# EAGLE library part TXS0102 (library texas)
VOLTAGE-LEVEL TRANSLATOR 2-BIT BIDIRECTIONAL
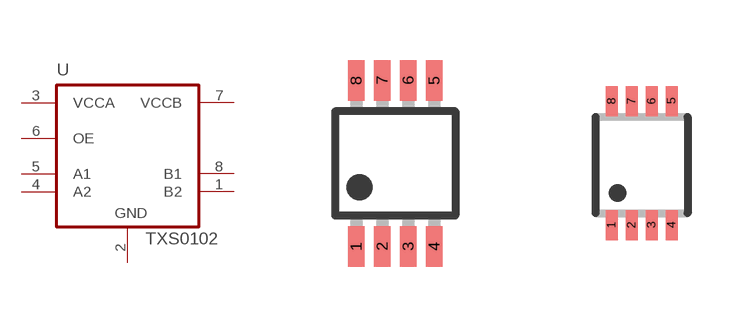
[diagram p38: symbol with the pads of SM8-DCT; footprints SM8-DCT, US8-DCU]

Designator prefix U

## TXS0102DCT  [SM8-DCT]
1  B2
2  GND  pwr
3  VCCA  pwr
4  A2
5  A1
6  OE  in
7  VCCB  pwr
8  B1

## TXS0102DCU  [US8-DCU]
Pads as for SM8-DCT

## TXS0102YZP  [XBGA-N8]
A1  B2
A2  B1
B1  GND  pwr
B2  VCCB  pwr
C1  VCCA  pwr
C2  OE  in
D1  A2
D2  A1

## Footprint SM8-DCT (pad centres in mm)
SM8 - DCT 0.65 mm pitch
smd 0.406 x 1.016: 1 -0.975,-2.075; 2 -0.325,-2.075; 3 0.325,-2.075; 4 0.975,-2.075; 5 0.975,2.075; 6 0.325,2.075; 7 -0.325,2.075; 8 -0.975,2.075

## Footprint US8-DCU (pad centres in mm)
US8 - DCU 0.50 mm pitch
smd 0.3 x 0.75: 1 -0.75,-1.5; 2 -0.25,-1.5; 3 0.25,-1.5; 4 0.75,-1.5; 5 0.75,1.6; 6 0.25,1.6; 7 -0.25,1.6; 8 -0.75,1.6

## Footprint XBGA-N8 (pad centres in mm)
DSBGA-08 YZP (R-XBGA-N8)
smd 0.25 x 0.25: A1 -0.75,-0.25; A2 -0.75,0.25; B1 -0.25,-0.25; B2 -0.25,0.25; C1 0.25,-0.25; C2 0.25,0.25; D1 0.75,-0.25; D2 0.75,0.25